# EAGLE library part OPTO_COUP_6N137 (library lolomolo)
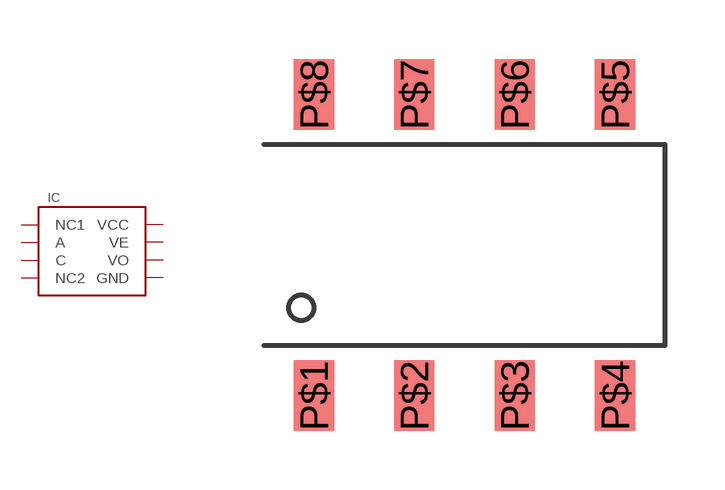
[diagram p12: symbol with the pads of DIP08_SMD; footprint DIP08_SMD]

Designator prefix IC

## OPTO_COUP_6N137  [DIP08_SMD]
P$1  NC1
P$2  A
P$3  C
P$4  NC2
P$5  GND
P$6  VO
P$7  VE
P$8  VCC

## Footprint DIP08_SMD (pad centres in mm)
smd 1.016 x 1.778: P$1 0,0; P$2 2.54,0; P$3 5.08,0; P$4 7.62,0; P$5 7.62,7.62; P$6 5.08,7.62; P$7 2.54,7.62; P$8 0,7.62